# EAGLE library part EAGLE_STEP-DOWN-CONVERTER-(REV18C)_VDMM_171960501 (library sensortag_motherboard_v004)
MagI³C-VDMM Variable Step Down MicroModule Characteristics LGA <http://katalog.we-online.de/media/images/v2/LGA-6_MicroModule_171960501.jpg> Details see: http://katalog.we-online.de/pm/datasheet/171960501.pdf Created By Yingchun,Shan 2017-12-15 2017 (C) Wurth Elektronik
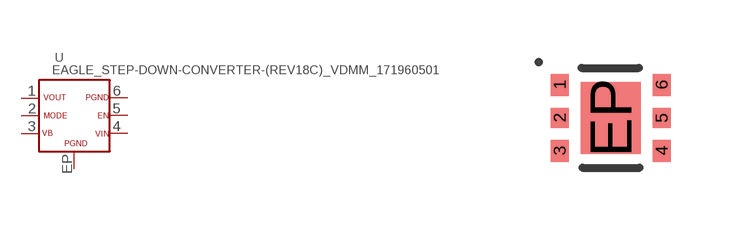
[diagram p3: symbol with the pads of EAGLE_STEP-DOWN-CONVERTER-(REV18C)_VDMM_171960501; footprint EAGLE_STEP-DOWN-CONVERTER-(REV18C)_VDMM_171960501]

Designator prefix U

## EAGLE_STEP-DOWN-CONVERTER-(REV18C)_VDMM_171960501  [EAGLE_STEP-DOWN-CONVERTER-(REV18C)_VDMM_171960501]
1  VOUT  out
2  MODE
3  FB
4  VIN  in
5  EN
6  PGND
EP  PGND1

## Footprint EAGLE_STEP-DOWN-CONVERTER-(REV18C)_VDMM_171960501 (pad centres in mm)
smd 0.45 x 0.55: 1 -1.275,0.825; 3 -1.275,-0.825; 4 1.275,-0.825; 6 1.275,0.825
smd 0.45 x 0.5: 2 -1.275,0; 5 1.275,0
smd 1.5 x 1.8: EP 0,0